# Altium footprint library Custom.PcbLib: 446 footprints (part 1 of 28)
Each footprint in its own frame and in the unit in brackets; x right, y up, seen from the top. Pads: shape width x height; smd on the part's side, far side on the other; paste and mask are expansions set on the pad; w line width, h text height; cw(c..) or ccw(c..) is an arc to the next point about the centre after c.
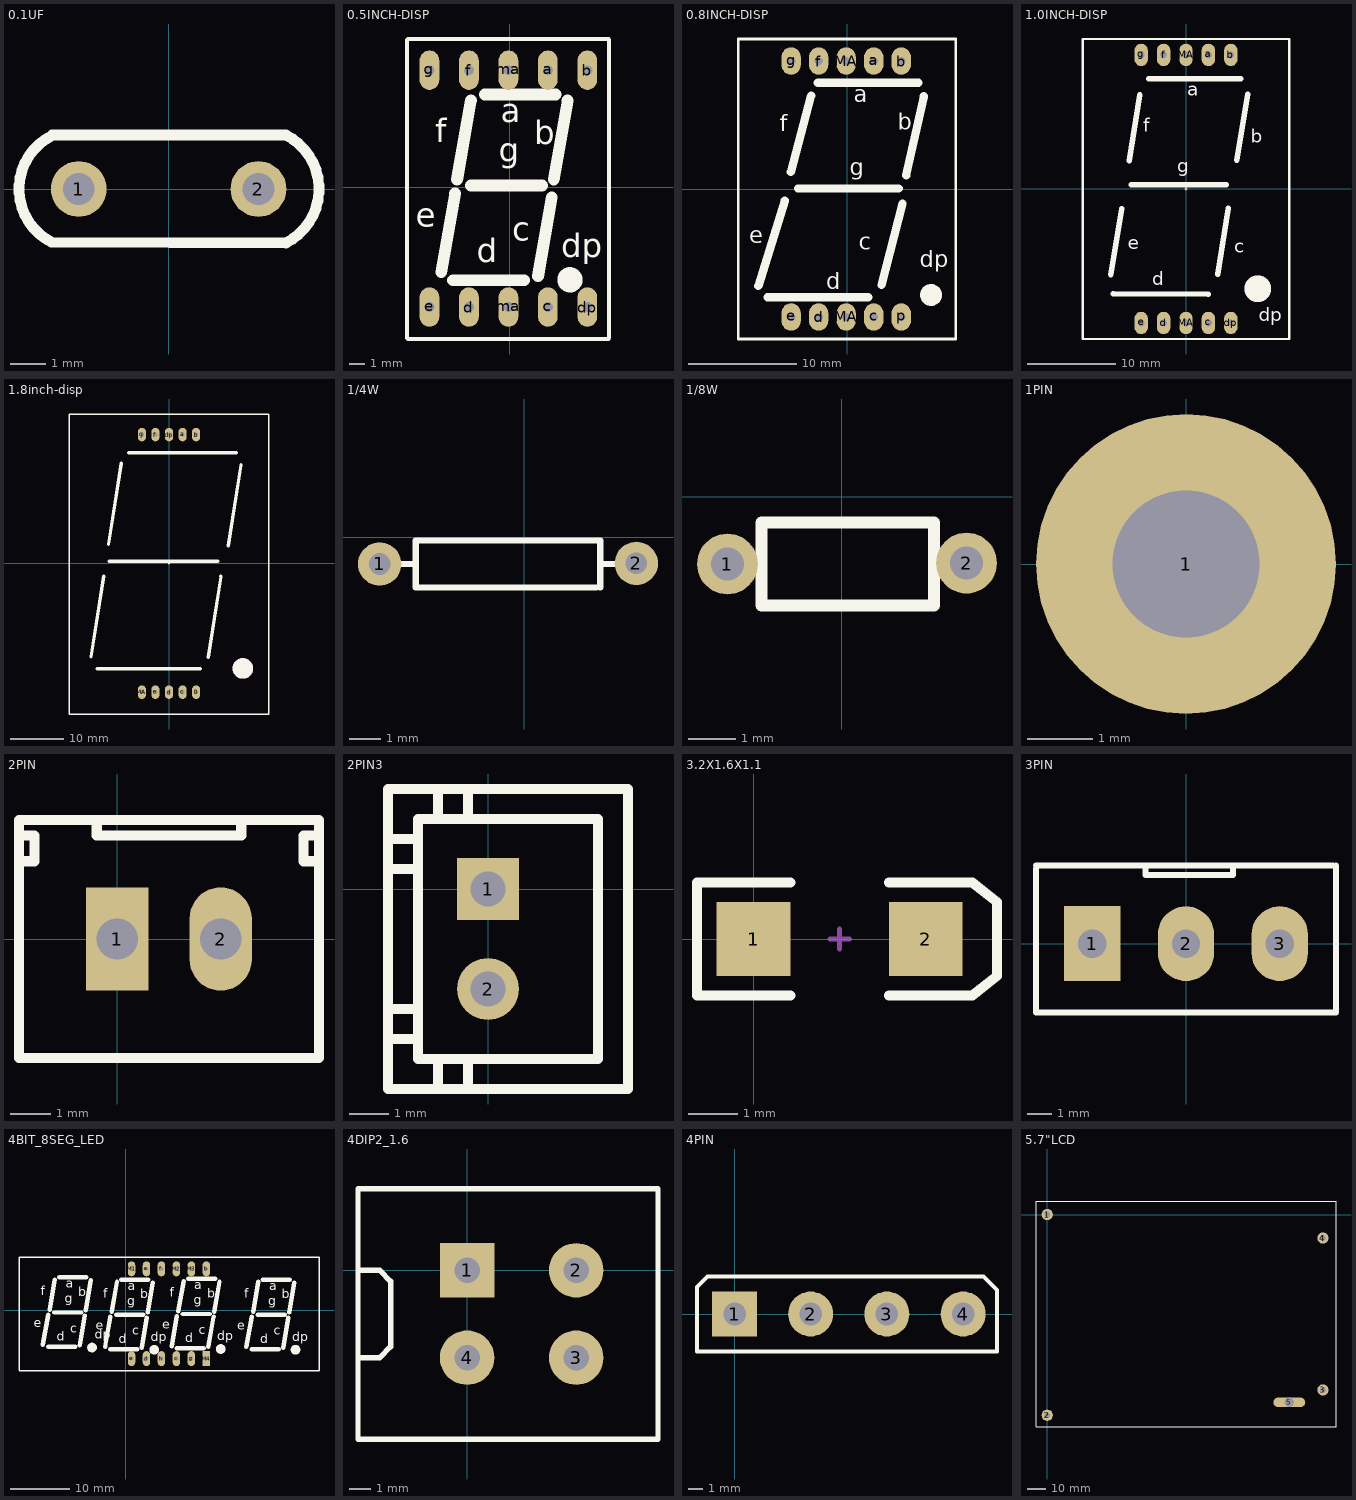
[diagram p0: the footprints below, top view; thin cyan lines are the x and y axes]

## 0.1UF [mil]
pads (2):
  round 62 hole 35.43: 1(-100,0) 2(100,0)
Top Overlay:
  lines w12: -130.04,59.28 ccw(c-100,0) -130.04,-59.28 130.54,-59.99 ccw(c100,0) 130.54,59.99 -129.42,60.22

## 0.5INCH-DISP [mil]
pads (10):
  oval 50x100 hole 25: a(97,297) b(197,297) c(97,-303) d(-103,-303) dp(197,-303) e(-203,-303) f(-103,297) g(-203,297) ma(-3,-303) ma(-3,297)
Top Overlay:
  circle w40: c153,-234 r12
  lines w10: -260,-382 -260,374 ; -258,-384 251,-384 ; -258,376 251,376 ; 252,-380 252,374
  lines w30: -173,-215 -138,-15 ; -143,-235 37,-235 ; -133,20 -98,220 ; -98,5 82,5 ; -63,235 117,235 ; 72,-225 107,-25 ; 112,20 147,220
  text "f" at -188,115 h60
  text "b" at 62,110 h60
  text "g" at -28,65 h60
  text "a" at -23,165 h60
  text "d" at -83,-190 h60
  text "e" at -238,-100 h60
  text "dp" at 131,-177 h60
  text "c" at 7,-135 h60

## 0.8INCH-DISP [mil]
pads (10):
  oval 70x100 hole 30: a(97,465) b(197,465) c(97,-465) d(-103,-465) e(-203,-465) f(-103,465) g(-203,465) MA(-3,-465) MA(-3,465) p(197,-465)
Top Overlay:
  circle w40: c305.31,-385 r19.68
  lines w10: -395,-545 -395,545 395,545 395,-545 -395,-545
  lines w30: -322,-352 -226,-42 ; -289,-393 77.14,-393 ; -204,62 -130,339 ; -177.68,2.24 188.47,2.24 ; -108,-478 -103,-473 ; -106.14,386 260,386 ; 125,-349 202,-53 ; 215,49 279,337
  text "a" at 25,315 h60
  text "g" at 10,50 h60
  text "c" at 43,-220 h60
  text "d" at -75,-365 h60
  text "e" at -355,-198 h60
  text "f" at -245,210 h60
  text "dp" at 265,-285 h60
  text "b" at 185,215 h60

## 1.0INCH-DISP [mil]
pads (10):
  oval 60x100 hole 30: a(100,598) b(200,598) c(100,-598) d(-100,-598) dp(200,-598) e(-200,-598) f(-100,598) g(-200,598) MA(0,-598) MA(0,598)
Top Overlay:
  lines w2: -6,0 6,0 ; 0,-6 0,5
  lines w10: -461,-10 -461,10 ; -460.88,-669.58 -460.88,669 ; -459.88,-669.58 461,-669.58 461,669 -459.88,669
  lines w25: -335,-382 -287,-89 ; -324,-467 99,-470 ; -254,126 -206,419 ; -244,19 179,19 ; -167,492 245,492 ; 141,-380 189,-87 ; 227,129 275,422
  text "a" at 5,415 h60
  text "b" at 290,205 h60
  text "c" at 215,-285 h60
  text "d" at -150,-430 h60
  text "e" at -260,-270 h60
  text "f" at -190,255 h60
  text "dp" at 325,-590 h60
  text "g" at -40,75 h60
Top Overlay keep-out:
  circle w100: c320.57,-445 r9.43

## 1.8inch-disp [mil]
pads (10):
  oval 60x100 hole 30: 0(200,-950) a(100,950) b(200,950) c(100,-950) d(0,-950) dp(0,950) e(-100,-950) f(-100,950) g(-200,950) MA(-200,-950)
Top Overlay:
  lines w2: -5,0 5,0 ; 0,-5 0,4
  lines w10: -736,-1111 -736,1101.6 736,1101.6 736,-1111 -736,-1111
  lines w25: -575,-691 -481,-93 ; -528,-778 230,-778 ; -446,139 -352,737 ; -442,15 359,15 ; -299,815 496,815 ; 289,-694 383,-96 ; 437,128 531,726
Top Overlay keep-out:
  circle w100: c544.39,-775 r25.61

## 1/4W [mm]
pads (2):
  round 1.4 hole 0.7: 1(-4.68,-0.86) 2(3.62,-0.84)
Top Overlay:
  lines w0.203: -4.022,-0.86 -3.514,-0.86 ; 2.328,-1.622 -3.514,-1.622 -3.514,-0.098 2.455,-0.098 2.455,-1.622 ; 2.455,-0.86 2.963,-0.86

## 1/8W [mm]
pads (2):
  round 1.3 hole 0.7: 1(-2.44,-1.44) 2(2.66,-1.42)
Top Overlay:
  lines w0.254: -1.718,-2.329 -1.718,-0.551 1.965,-0.551 1.965,-2.329 -1.718,-2.329

## 1PIN [mil]
pads (1):
  round 180 hole 88: 1(0,0)

## 2PIN [mil]
pads (2):
  rect 60x100 hole 40: 1(0,0)
  oval 60x100 hole 40: 2(100,0)
Top Overlay:
  lines w10: -95,75 -80,75 -80,100 -95,100 ; -20,115 -20,100 120,100 120,115 ; 135,-115 195,-115 ; 195,75 180,75 180,100 195,100 ; 195,-115 195,115 -95,115 -95,-115 195,-115

## 2PIN3 [mil]
pads (2):
  rect 62x62 hole 35: 1(0,0)
  round 62 hole 35: 2(0,-100)
Top Overlay:
  lines w10: -100,-150 -70,-150 ; -100,-120 -70,-120 ; -100,20 -70,20 ; -100,50 -70,50 ; -50,-200 -50,-170 ; -50,70 -50,100 ; -20,-200 -20,-170 ; -20,70 -20,100 ; -100,-200 -100,100 0,100 140,100 140,-200 -100,-200 ; -70,-170 -70,70 110,70 110,-170 -70,-170

## 3.2X1.6X1.1 [mm] "SMT LED; 2 Flat Leads"
pads (2):
  rect 1.5x1.5 smd: 1(0,0) 2(3.5,0)
Top Overlay:
  lines w0.2: 0.75,-1.15 -1.15,-1.15 -1.15,1.15 0.75,1.15 ; 2.75,-1.15 4.45,-1.15 4.95,-0.75 4.95,0.75 4.45,1.15 2.75,1.15
Mechanical 1:
  lines w0.1: 1.55,0 1.95,0 ; 1.75,-0.2 1.75,0.2

## 3PIN [mil]
pads (3):
  rect 90x120 hole 45: 1(-150,0)
  oval 90x120 hole 45: 2(0,0) 3(150,0)
Top Overlay:
  lines w10: -240,120 -240,-110 240,-110 ; -240,125 235,125 ; -65,125 -65,110 75,110 75,125 ; -10,-110 240,-110 ; 240,125 240,-110

## 4BIT_8SEG_LED [mil]
pads (12):
  oval 50x100 hole 25: a(137,277) b(537,277) c(337,-323) d(137,-323) e(37,-323) f(237,277) g(437,-323) h(237,-323) M1(37,277) M2(337,277) M3(437,277)
  rect 50x100 hole 25: M4(537,-323)
Top Overlay:
  circle w40: c1133,-264 r12
  circle w40: c633,-259 r12
  circle w40: c-227,-249 r12
  circle w40: c188,-264 r12
  lines w10: -715,-405 1290,-405 ; -715,-401 -715,355 1290,355 1290,-404
  lines w30: -555,-230 -520,-30 ; -520,-245 -340,-245 ; -510,5 -475,205 ; -480,-15 -300,-15 ; -445,220 -265,220 ; -310,-235 -275,-35 ; -270,0 -235,200 ; -140,-245 -105,-45 ; -105,-260 75,-260 ; -95,-10 -60,190 ; -65,-30 115,-30 ; -30,205 150,205 ; 105,-250 140,-50 ; 145,-15 180,185 ; 305,-240 340,-40 ; 340,-255 520,-255 ; 350,-5 385,195 ; 380,-25 560,-25 ; 415,210 595,210 ; 550,-245 585,-45 ; 590,-10 625,190 ; 805,-245 840,-45 ; 840,-260 1020,-260 ; 850,-10 885,190 ; 880,-30 1060,-30 ; 915,205 1095,205 ; 1050,-250 1085,-50 ; 1090,-15 1125,185
  text "f" at 792,85 h60
  text "b" at 1042,80 h60
  text "g" at 952,35 h60
  text "a" at 957,135 h60
  text "d" at 897,-220 h60
  text "e" at 742,-130 h60
  text "dp" at 1111,-207 h60
  text "c" at 987,-165 h60
  text "f" at 292,90 h60
  text "b" at 542,85 h60
  text "g" at 452,40 h60
  text "a" at 457,140 h60
  text "d" at 397,-215 h60
  text "e" at 242,-125 h60
  text "dp" at 611,-202 h60
  text "c" at 487,-160 h60
  text "f" at -568,100 h60
  text "b" at -318,95 h60
  text "g" at -408,50 h60
  text "a" at -403,150 h60
  text "d" at -463,-205 h60
  text "e" at -618,-115 h60
  text "dp" at -209,-192 h60
  text "c" at -373,-150 h60
  text "f" at -153,85 h60
  text "b" at 97,80 h60
  text "g" at 7,35 h60
  text "a" at 12,135 h60
  text "d" at -48,-220 h60
  text "e" at -203,-130 h60
  text "dp" at 166,-207 h60
  text "c" at 42,-165 h60

## 4DIP2_1.6 [mil]
pads (4):
  rect 100x100 hole 47: 1(0,0)
  round 100 hole 47: 2(200,0) 3(200,-160) 4(0,-160)
Top Overlay:
  lines w10: -200,-160 -160,-160 -140,-140 -140,-20 -160,0 -200,0 ; -200,-310 -200,150 350,150 350,-310 -200,-310

## 4PIN [mm]
pads (4):
  rect 3x3 hole 1.5: 1(0,0)
  round 3 hole 1.5: 2(5.08,0) 3(10.16,0) 4(15.24,0)
Top Overlay:
  lines w0.254: -2.5,-2.5 -2.5,1.8 -1.8,2.5 16.6,2.5 17.5,1.6 17.5,-2.5 -2.5,-2.5

## 5.7"LCD [mm]
pads (5):
  round 6 hole 3.1: 1(0,0) 2(0,-107) 3(147,-93.5) 4(147,-12.5)
  oval 17x5 hole 5: 5(129.1,-100.1)
Top Overlay:
  lines w0.305: -6,-113 154,-113 154,7 -6,7 -6,-113